# Altium footprint library CN_MOLEX_KK_22-27-2051_5P.PcbLib: 1 footprints
Each footprint in its own frame and in the unit in brackets; x right, y up, seen from the top. Pads: shape width x height; smd on the part's side, far side on the other; paste and mask are expansions set on the pad; w line width, h text height; cw(c..) or ccw(c..) is an arc to the next point about the centre after c.
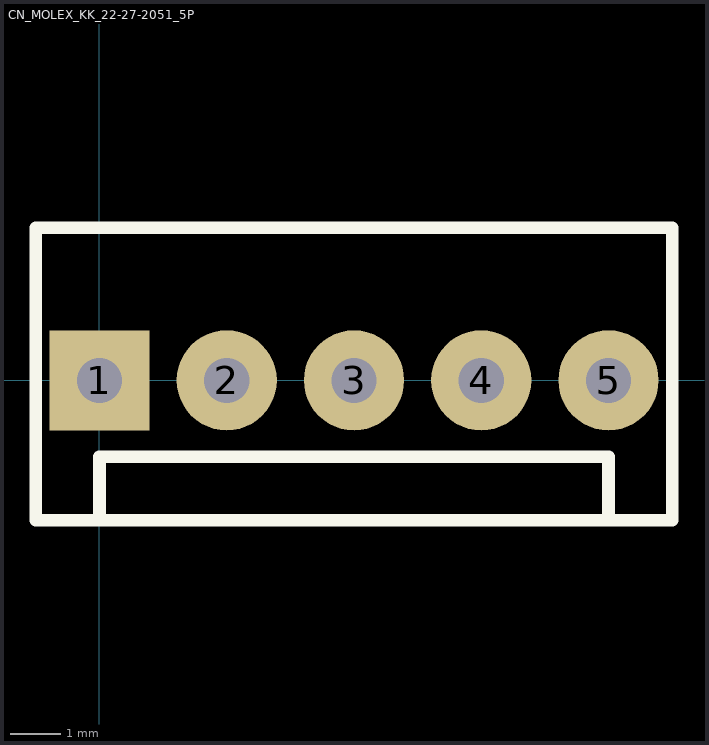
[diagram p0: the footprint, top view; thin cyan lines are the x and y axes]

## CN_MOLEX_KK_22-27-2051_5P [mm]
pads (5):
  rect 2x2 hole 0.9: 1(0,0)
  round 2 hole 0.9: 2(2.54,0) 3(5.08,0) 4(7.62,0) 5(10.16,0)
Top Overlay:
  lines w0.254: 0,-2.794 0,-1.524 10.16,-1.524 10.16,-2.794 ; -1.27,-2.794 -1.27,3.048 11.43,3.048 11.43,-2.794 -1.27,-2.794
3D body: height 11.7, standoff -3.56, extent -1.27,-2.882 11.43,2.918